# EAGLE library part M22-2011246 (library SamacSys_Parts)
Headers & Wire Housings 12 SIL VERT PIN HDR TIN Source: Datasheet <https://cdn.harwin.com/pdfs/M22-201.pdf>
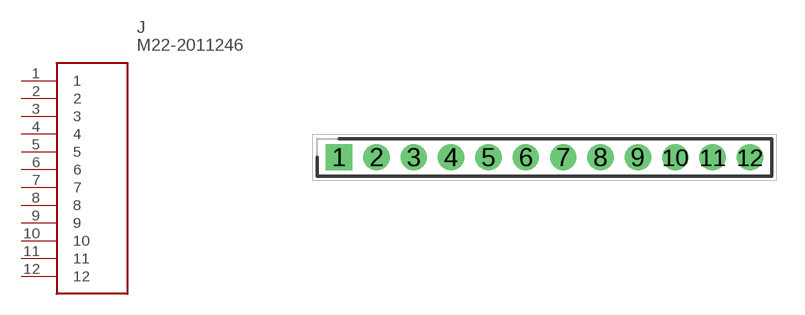
[diagram p113: symbol with the pads of HDRV12W50P0X200_1X12_2400X200X; footprint HDRV12W50P0X200_1X12_2400X200X]

Designator prefix J

## M22-2011246 (DESCRIPTION: Headers & Wire Housings 12 SIL VERT PIN HDR TIN; HEIGHT: 5.25mm; MANUFACTURER_NAME: Harwin; MANUFACTURER_PART_NUMBER: M22-2011246; MOUSER_PART_NUMBER: 855-M22-2011246; MOUSER_PRICE-STOCK: https://www.mouser.co.uk/ProductDetail/Harwin/M22-2011246?qs=xxdqPuaJ%252Ba1ZHRQz4mFfzg%3D%3D)  [HDRV12W50P0X200_1X12_2400X200X]
1  1
2  2
3  3
4  4
5  5
6  6
7  7
8  8
9  9
10  10
11  11
12  12

## Footprint HDRV12W50P0X200_1X12_2400X200X (pad centres in mm)
M22-2011246-1
drill 0.9 pad 1.35 square: 1 0,0
drill 0.9 pad 1.35: 2 2,0; 3 4,0; 4 6,0; 5 8,0; 6 10,0; 7 12,0; 8 14,0; 9 16,0; 10 18,0; 11 20,0; 12 22,0